# EAGLE library part ADXL345 (library personal)
Analog Devices ADXL345 3-Axis SPI/I2C 2/4/8/16g Accelerometer The ADXL345 is a small, thin, low power, 3-axis accelerometer with high resolution (13-bit) measurement at up to ±16g. Digital output data is formatted as 16-bit twos complement and is accessible through either a SPI (3- or 4-wire) or I2C digital interface. Datasheet <https://www.sparkfun.com/datasheets/Sensors/Accelerometer/ADXL345.pdf> SparkFun Products SparkFun Triple Axis Accelerometer Breakout - ADXL345 <https://www.sparkfun.com/products/9836> (SEN-09836) Triple Axis Accelerometer - ADXL345 <https://www.sparkfun.com/products/9045> (SEN-09045) SparkFun 6 Degrees of Freedom IMU Digital Combo Board - ITG3200/ADXL345 <https://www.sparkfun.com/products/10121> (SEN-10121)
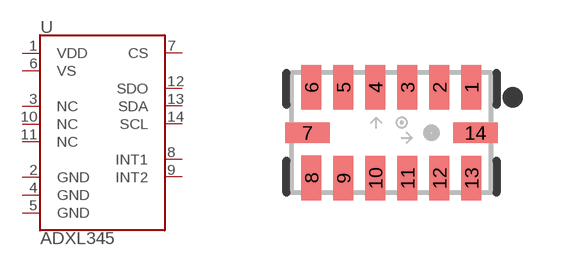
[diagram p0: symbol with the pads of LGA-14; footprint LGA-14]

Designator prefix U

## ADXL345 (PROD_ID: IC-09097; SF_ID: SEN-09045)  [LGA-14]
1  VDD
2  GND
3  NC
4  GND
5  GND
6  VS
7  CS
8  INT1
9  INT2
10  NC
11  NC
12  SDO
13  SDA
14  SCL

## Footprint LGA-14 (pad centres in mm)
14-Pin LGA (3 x 5 x 1 mm) (1:1 footprint) Datasheet <https://www.sparkfun.com/datasheets/Sensors/Accelerometer/ADXL345.pdf> Specifications: Pin Count: 14 Area: 3.0 x 5.0 x 1.0 mm Pitch: 0.8 mm Devices Using: ADXL345
smd 0.5 x 1.124: 1 2,1.138; 2 1.2,1.138; 3 0.4,1.138; 4 -0.4,1.138; 5 -1.2,1.138; 6 -2,1.138; 8 -2,-1.13; 9 -1.2,-1.138; 10 -0.4,-1.138; 11 0.4,-1.138; 12 1.2,-1.138; 13 2,-1.138
smd 1.124 x 0.5: 7 -2.1,0; 14 2.1,0